# Altium footprint library 1.5X2.25RFSHIELD.PcbLib: 1 footprints
Each footprint in its own frame and in the unit in brackets; x right, y up, seen from the top. Pads: shape width x height; smd on the part's side, far side on the other; paste and mask are expansions set on the pad; w line width, h text height; cw(c..) or ccw(c..) is an arc to the next point about the centre after c.
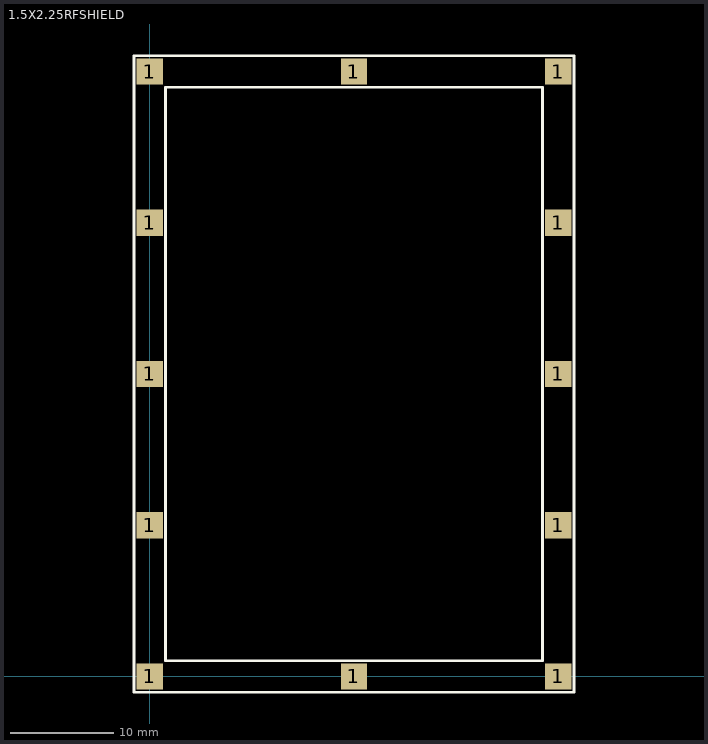
[diagram p0: the footprint, top view; thin cyan lines are the x and y axes]

## 1.5X2.25RFSHIELD [mil]
pads (12):
  rect 100x100 smd: 1(0,0) 1(0,577.5) 1(0,1155) 1(0,1732.5) 1(0,2310) 1(780,0) 1(780,2310) 1(1560,0) 1(1560,577.5) 1(1560,1155) 1(1560,1732.5) 1(1560,2310)
Top Overlay:
  lines w10: -60,-60 -60,2370 1620,2370 1620,-60 -60,-60 ; 60,60 60,2250 1500,2250 1500,60 60,60